# Altium schematic symbol library ESDR0502NMUTBG.SchLib: 1 symbol
Pins are listed as number, name and electrical type; pins without a type are passive.

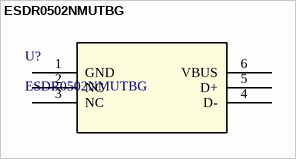
[diagram p0: symbol ESDR0502NMUTBG]

## ESDR0502NMUTBG
designator U?
TVS DIODE 5.5VWM 6UDFN; Manufacturer_Name: onsemi; Copyright: Copyright (C) 2025 Ultra Librarian. All rights reserved.; Manufacturer_Part_Number: ESDR0502NMUTBG; RefDes: RefDes; Type: Type
footprint UDFN6_517AA_ONS
pins: 1 GND (power), 2 NC, 3 NC, 4 D-, 5 D+, 6 VBUS (power)